# Altium schematic symbol library FET-NP-Small.SchLib: 2 symbols
Pins are listed as number, name and electrical type; pins without a type are passive.

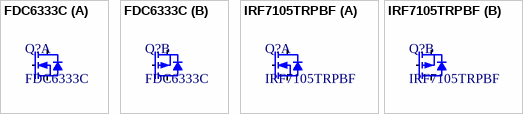
[diagram p0: symbols FDC6333C to IRF7105TRPBF]

## FDC6333C
designator Q?
Mosfet Array 30V 2.5A, 2A 700mW Surface Mount SuperSOT™-6,  A=N-CH. B=P-CH; Supplier 1: Digi-Key; Supplier Part Number 1: FDC6333CCT-ND; Volt: 30V; Package / Case: SOT-23-6 Thin; Mounted: Yes; Current: 2.5A ,2A; helpURL: https://www.onsemi.com/pdf/datasheet/fdc6333c-d.pdf
footprint SOT-23-6 (SOT23-6, from TI DDC (R-PDSO-G6))
part A pins: 1 G, 5 S, 6 D
part B pins: 2 S, 3 G, 4 D

## IRF7105TRPBF
designator Q?
Mosfet Array 25V 3.5A, 2.3A 2W Surface Mount 8-SO. A=N-CH. B=P-CH; Supplier 1: Digi-Key; Supplier Part Number 1: IRF7105PBFTR-ND; Volt: 25V; Package / Case: 8-SOIC; Mounted: Yes; Current: 3.5A ,2.3A
footprint SOIC-8-EXPOSED-PAD (8-Lead Plastic Small Outline, 0.15in pitch,  LTC DWG # 05-08-1610 Rev G)
part A pins: 1 S, 2 G, 7 D, 8 D
part B pins: 3 S, 4 G, 5 D, 6 D